# EAGLE library part CK_202011SCQN (library CK_JS202011SCQN)
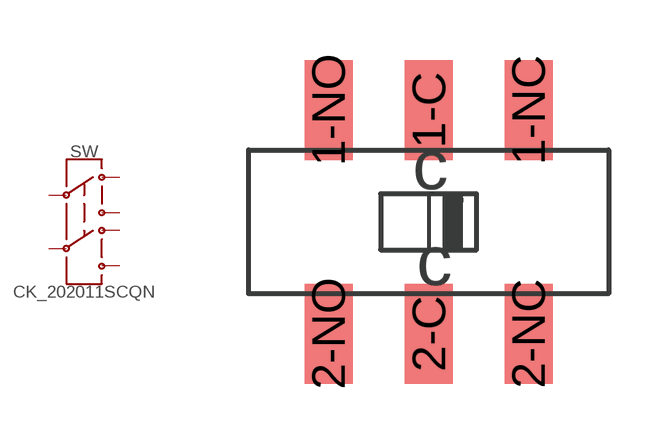
[diagram p0: symbol with the pads of CK_JS202011SCQN; footprint CK_JS202011SCQN]

Designator prefix SW

## CK_202011SCQN  [CK_JS202011SCQN]
1-C  C1
1-NC  1-NC
1-NO  1-NO
2-C  C2
2-NC  2-NC
2-NO  2-NO

## Footprint CK_JS202011SCQN (pad centres in mm)
smd 1.2 x 2.5: 1-C -0.9,2.3; 1-NC 1.6,2.3; 1-NO -3.4,2.3; 2-C -0.9,-3.3; 2-NC 1.6,-3.3; 2-NO -3.4,-3.3